# EAGLE library part 74F373 (library Latch)
54F/74F373 Octal Transparent Latch with TRI-STATE Outputs General Description The 'F373 consists of eight latches with TRI-STATE outputs for bus organized system applications. The flip-flops appear transparent to the data when Latch Enable (LE) is HIGH. When LE is LOW, the data that meets the setup times is latched. Data appears on the bus when the Output Enable (OE) is LOW. When OE is HIGH the bus output is in the high impedance state. Features - Eight latches in a single package - TRI-STATE outputs for bus interfacing - Guaranteed 4000V minimum ESD protection
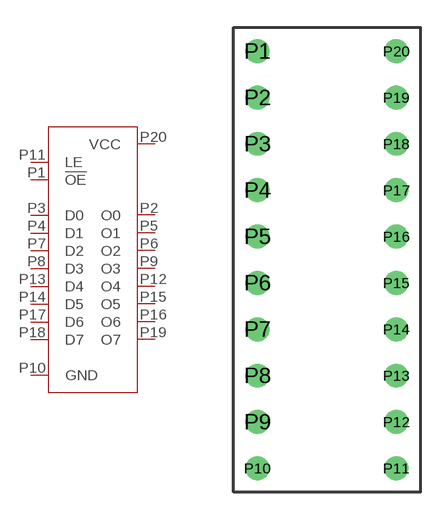
[diagram p0: symbol with the pads of 20DIP; footprint 20DIP]

Designator prefix U

## 74F373DIP  [20DIP]
P1  !OE
P2  O0
P3  D0
P4  D1
P5  O1
P6  O2
P7  D2
P8  D3
P9  O3
P10  GND
P11  LE
P12  O4
P13  D4
P14  D5
P15  O5
P16  O6
P17  D6
P18  D7
P19  O7
P20  VCC

## Footprint 20DIP (pad centres in mm)
20 pin DIP
drill 0.8: P1 -3.81,11.43; P2 -3.81,8.89; P3 -3.81,6.35; P4 -3.81,3.81; P5 -3.81,1.27; P6 -3.81,-1.27; P7 -3.81,-3.81; P8 -3.81,-6.35; P9 -3.81,-8.89; P10 -3.81,-11.43; P11 3.81,-11.43; P12 3.81,-8.89; P13 3.81,-6.35; P14 3.81,-3.81; P15 3.81,-1.27; P16 3.81,1.27; P17 3.81,3.81; P18 3.81,6.35; P19 3.81,8.89; P20 3.81,11.43